# EAGLE library part HDC1080 (library tilesPartComp)
HDC1080 Humidity and temperature sensor Ti low power, high accuracy sensor
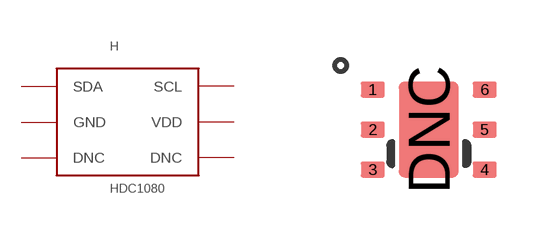
[diagram p4: symbol with the pads of PWSON_DMB; footprint PWSON_DMB]

Designator prefix H

## HDC1080  [PWSON_DMB]
1  SDA
2  GND  sup
3  DNC  nc
4  DNC  nc
5  VDD  pwr
6  SCL

## Footprint PWSON_DMB (pad centres in mm)
PWSON DMB 6 pin 3x3 mm For TI HDC1080 humidity sensor
smd 0.6 x 0.4: 1 -1.4,1; 2 -1.4,0; 3 -1.4,-1; 4 1.4,-1; 5 1.4,0; 6 1.4,1
smd 1.5 x 2.4: DNC 0,0